# Altium schematic symbol library TutorialLibrary.SchLib: 2 symbols
Pins are listed as number, name and electrical type; pins without a type are passive.

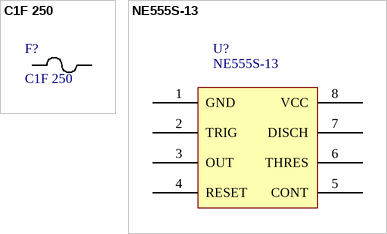
[diagram p0: symbols C1F 250 to NE555S-13]

## C1F 250
designator F?
Description; Manufacturer_Name: Belfuse; Copyright: Copyright (C) 2026 Ultra Librarian. All rights reserved.; Manufacturer_Part_Number: C1F 250
footprint C1_BEL
pins: 1, 2

## NE555S-13
designator U?
IC OSC SNGL TIMER 500KHZ 8-SOIC; Supplier 1: Newark; Supplier Part Number 1: NE555S-13
footprint NE555S-13 (555 Timer)
pins: 1 GND, 2 TRIG, 3 OUT, 4 RESET, 5 CONT, 6 THRES, 7 DISCH, 8 VCC